# Altium integrated library Xilinx Aerospace and Defense.IntLib: 197 symbols (part 4 of 56)
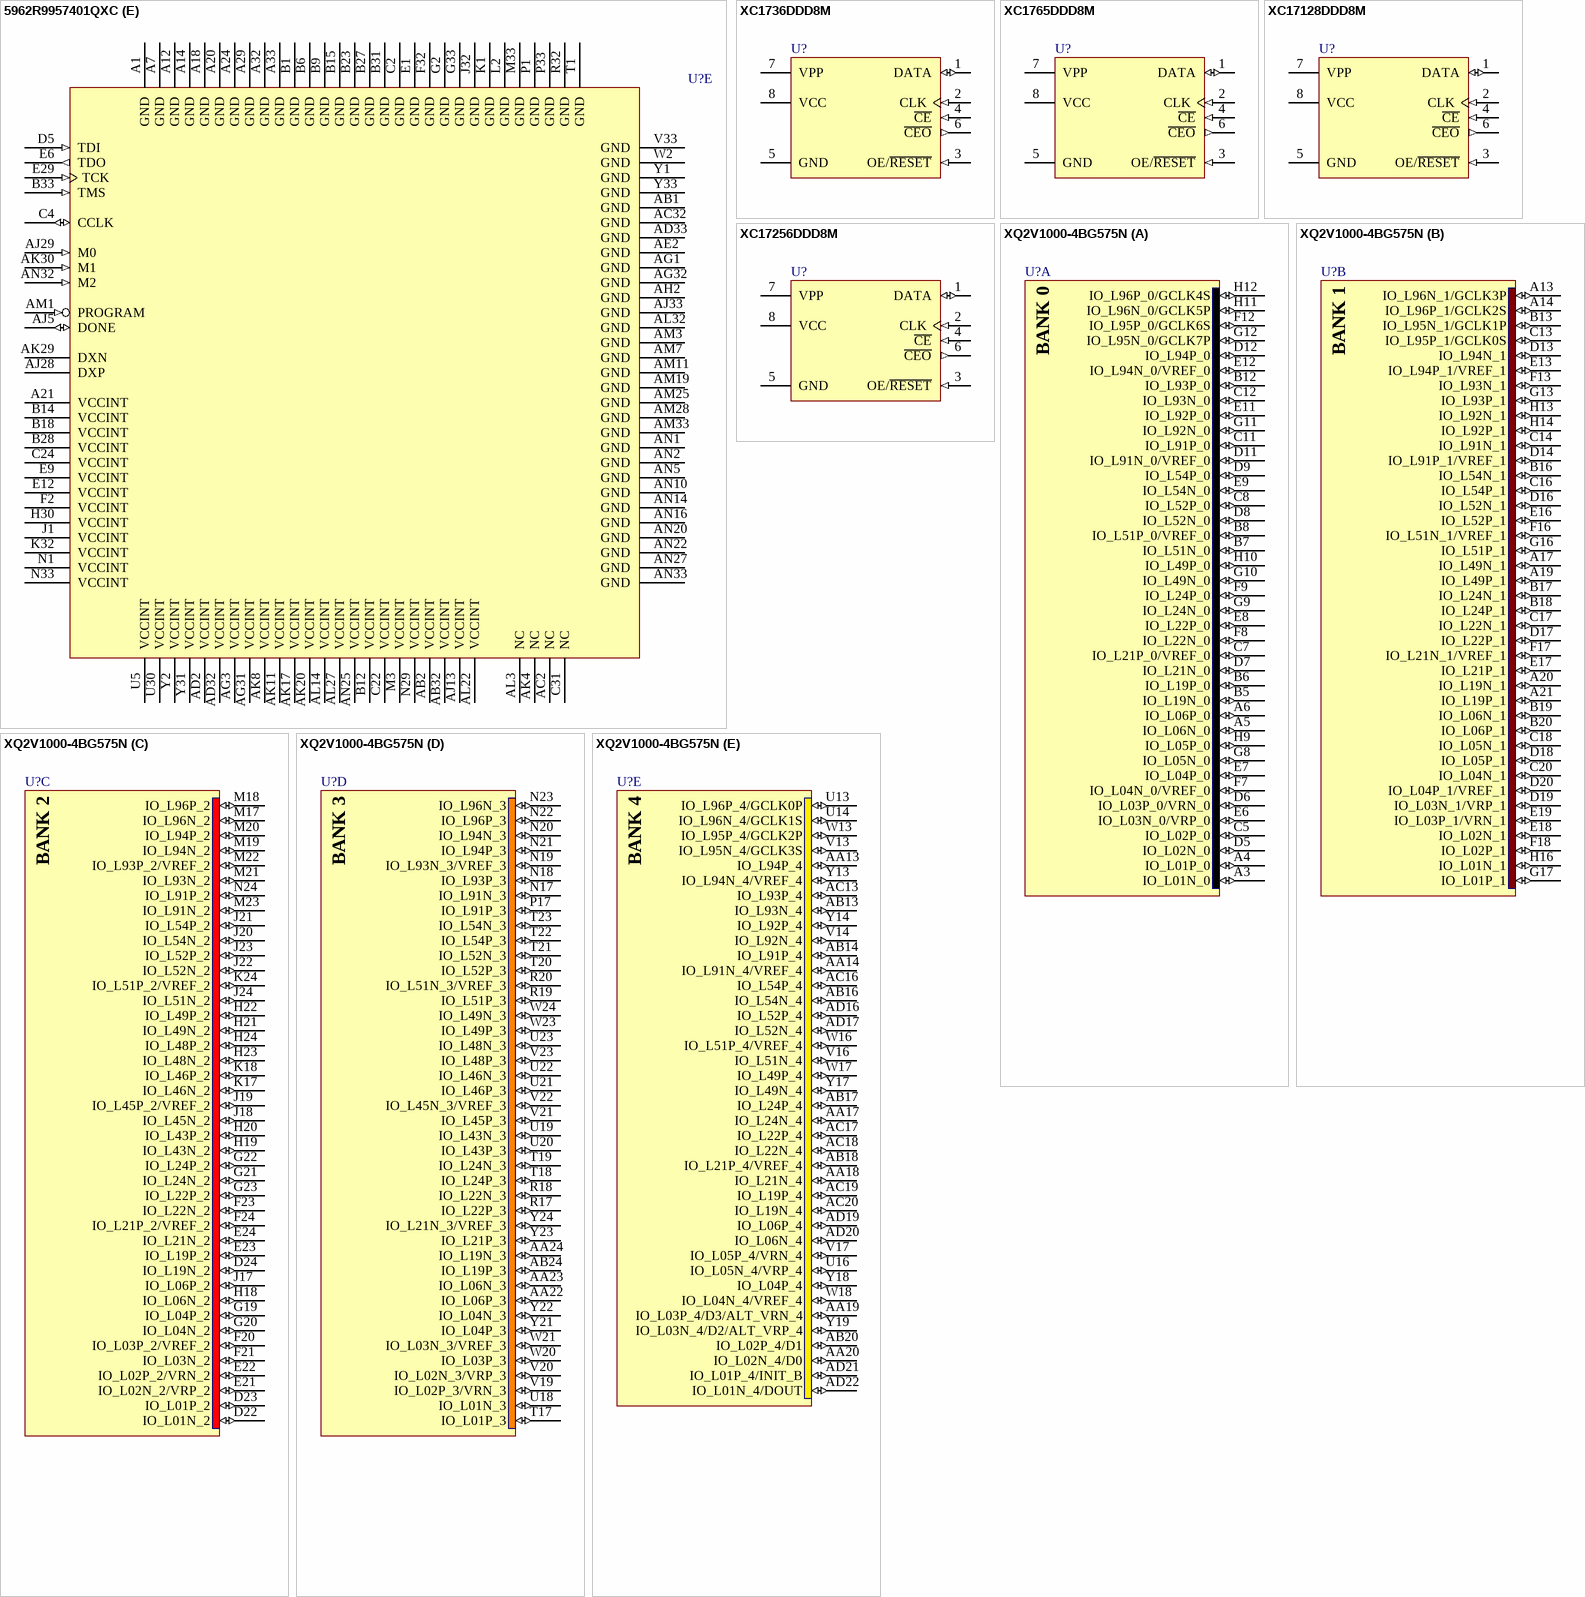
[diagram p420: symbols 5962R9957401QXC to XQ2V1000-4BG575N]

## XC1765DDD8M
designator U?
QPro XC1765 QML Configuration 5V PROM, 8-Pin Ceramic DIP, QML Certified to MIL-PRF-38535; Published: 17-Nov-2009; DatasheetVersion: ver2.1, Jun-2000; PackageVersion: rev1.0, Apr-2001; PackageReference: DD8; Publisher: Altium Limited; PackageDescription: 8-Pin Ceramic DIP (DD8); Code_JEDEC: MO-001-AN*; ComponentLink1Description: QPRO XC1700D Datasheet; ComponentLink1URL: http://www.xilinx.com/support/documentation/data_sheets/ds070.pdf; ComponentLink2Description: DD8 Package Drawing; ComponentLink2URL: http://www.xilinx.com/support/documentation/package_specs/dd8.pdf; ComponentLink3Description: Xilinx.com Home; ComponentLink3URL: http://www.xilinx.com
footprint DD8 (DIP, 8-Leads, Row Spacing 7.62mm, Pitch 2.54mm, Body 10.16x7.49mm)
signal-integrity model XC1765D_DD8 (PROM)
pins: 1 DATA (io) "Data Output.", 2 CLK (in) "Clock input for internal address counter.", 3 OE/~{RESET} (in) "Output Enable/Reset.", 4 ~{CE} (in) "Chip Enable Input.", 5 GND (power) "Ground.", 6 ~{CEO} (out) "Chip Enable Output, connects to the CE input of the next PROM in the chain.", 7 VPP (power) "Programming Voltage.  Do not leave Vpp floating!", 8 VCC (power) "Positive Supply."

## XC17128DDD8M
designator U?
QPro XC17128 QML Configuration 5V PROM, 8-Pin Ceramic DIP, QML Certified to MIL-PRF-38535; ComponentAvailability: Discontinued. Recommended Replacement XC17256DDD8M; Published: 17-Nov-2009; DatasheetVersion: ver2.1, Jun-2000; PackageVersion: rev1.0, Apr-2001; PackageReference: DD8; Publisher: Altium Limited; PackageDescription: 8-Pin Ceramic DIP (DD8); Code_JEDEC: MO-001-AN*; ComponentLink1Description: QPRO XC1700D Datasheet; ComponentLink1URL: http://www.xilinx.com/support/documentation/data_sheets/ds070.pdf; ComponentLink2Description: Discontinuation Notice; ComponentLink2URL: http://www.xilinx.com/support/documentation/customer_notices/xcn06002.pdf; ComponentLink3Description: DD8 Package Drawing; ComponentLink3URL: http://www.xilinx.com/support/documentation/package_specs/dd8.pdf; ComponentLink4Description: Xilinx.com Home; ComponentLink4URL: http://www.xilinx.com
footprint DD8 (DIP, 8-Leads, Row Spacing 7.62mm, Pitch 2.54mm, Body 10.16x7.49mm)
signal-integrity model XC17128D_DD8 (PROM)
pins: 1 DATA (io) "Data Output.", 2 CLK (in) "Clock input for internal address counter.", 3 OE/~{RESET} (in) "Output Enable/Reset.", 4 ~{CE} (in) "Chip Enable Input.", 5 GND (power) "Ground.", 6 ~{CEO} (out) "Chip Enable Output, connects to the CE input of the next PROM in the chain.", 7 VPP (power) "Programming Voltage.  Do not leave Vpp floating!", 8 VCC (power) "Positive Supply."

## XC17256DDD8M
designator U?
QPro XC17256 QML Configuration 5V PROM, 8-Pin Ceramic DIP, QML Certified to MIL-PRF-38535; Published: 17-Nov-2009; DatasheetVersion: ver2.1, Jun-2000; PackageVersion: rev1.0, Apr-2001; PackageReference: DD8; Publisher: Altium Limited; PackageDescription: 8-Pin Ceramic DIP (DD8); Code_JEDEC: MO-001-AN*; ComponentLink1Description: QPRO XC1700D Datasheet; ComponentLink1URL: http://www.xilinx.com/support/documentation/data_sheets/ds070.pdf; ComponentLink2Description: DD8 Package Drawing; ComponentLink2URL: http://www.xilinx.com/support/documentation/package_specs/dd8.pdf; ComponentLink3Description: Xilinx.com Home; ComponentLink3URL: http://www.xilinx.com
footprint DD8 (DIP, 8-Leads, Row Spacing 7.62mm, Pitch 2.54mm, Body 10.16x7.49mm)
signal-integrity model XC17256D_DD8 (PROM)
pins: 1 DATA (io) "Data Output.", 2 CLK (in) "Clock input for internal address counter.", 3 OE/~{RESET} (in) "Output Enable/Reset.", 4 ~{CE} (in) "Chip Enable Input.", 5 GND (power) "Ground.", 6 ~{CEO} (out) "Chip Enable Output, connects to the CE input of the next PROM in the chain.", 7 VPP (power) "Programming Voltage.  Do not leave Vpp floating!", 8 VCC (power) "Positive Supply."

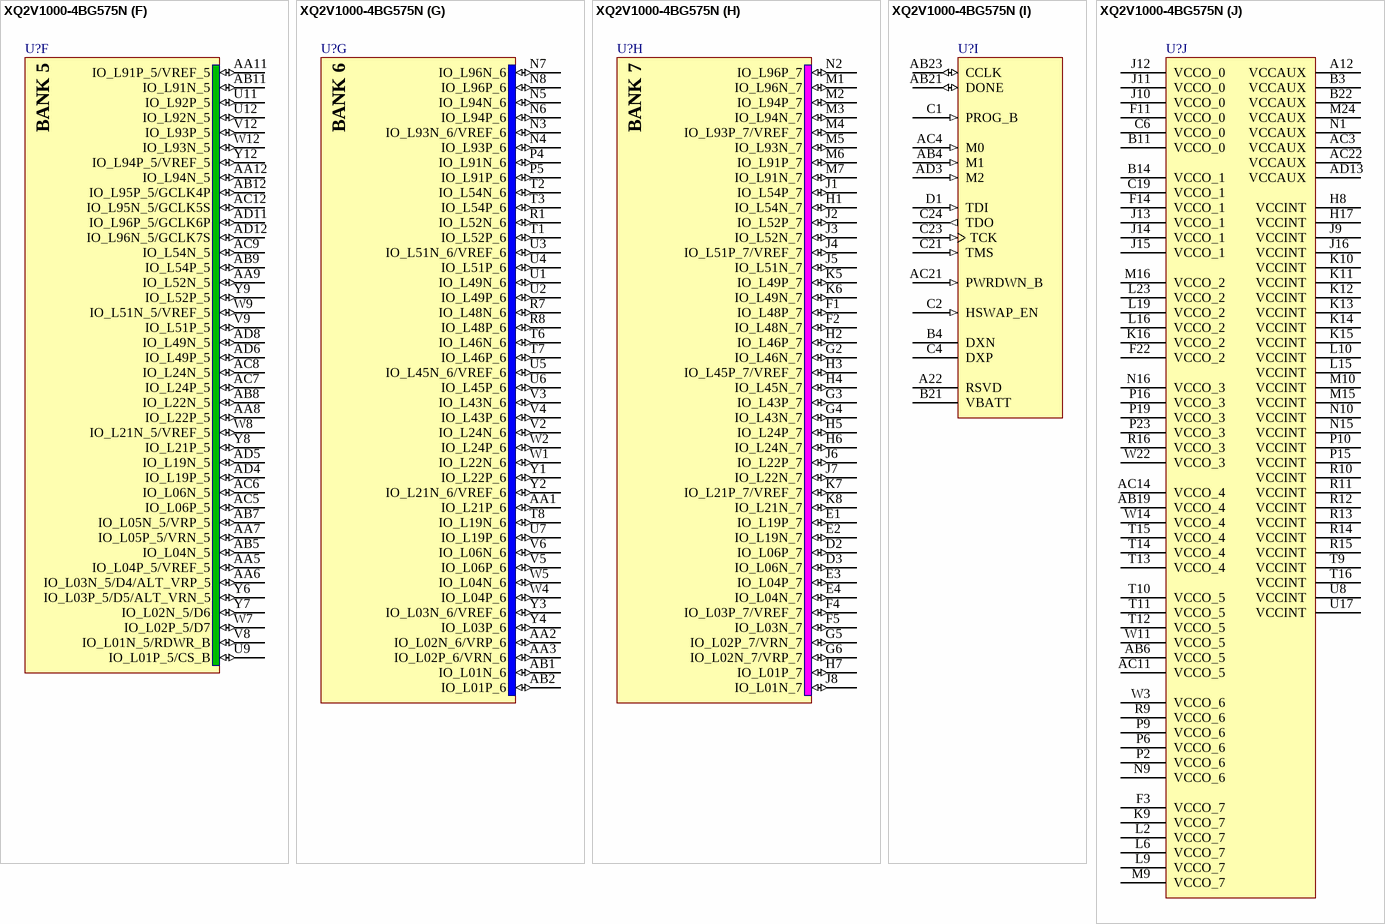
[diagram p23: symbol XQ2V1000-4BG575N]

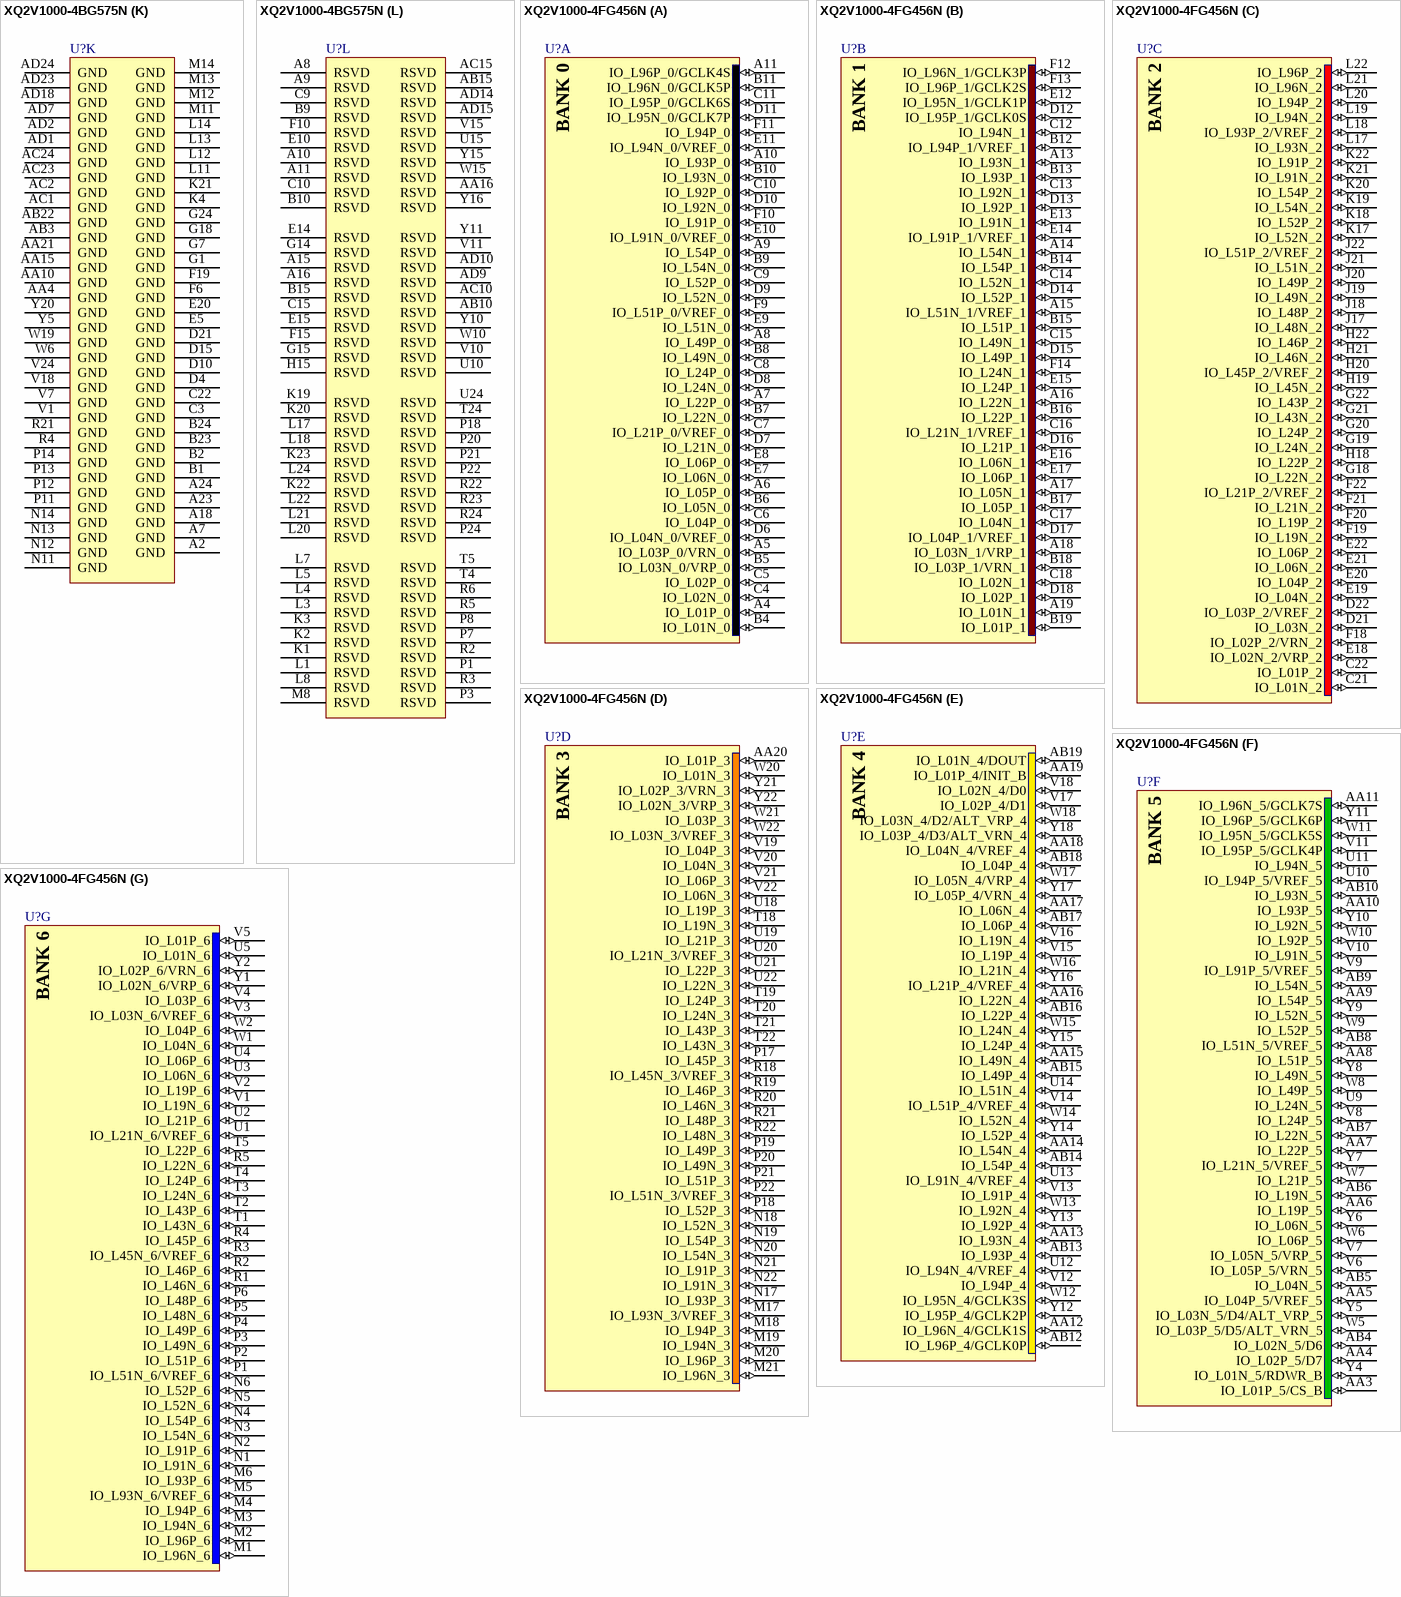
[diagram p24: symbols XQ2V1000-4BG575N to XQ2V1000-4FG456N]